# Altium schematic symbol library MYBSP.SchLib: 1 symbol
Pins are listed as number, name and electrical type; pins without a type are passive.

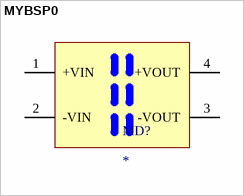
[diagram p0: symbol MYBSP0]

## MYBSP0
designator MD?
Isolated PoE Module DC DC; MP: MYBSP00502ABF; MF: Murata Power Solutions Inc.; Availability: In Stock; SnapEDA_Link: https://www.snapeda.com/parts/MYBSP00502ABF/Murata/view-part/?ref=snap; Value: *; Price: None; Package: None; Purchase-URL: https://pricing.snapeda.com/search/part/MYBSP00502ABF/?ref=eda; Check_prices: https://www.snapeda.com/parts/MYBSP00502ABF/Murata/view-part/?ref=eda
pins: 1 +VIN (power), 2 -VIN (power), 3 -VOUT (power), 4 +VOUT (power)